# Altium footprint library SM_PTCFUSE_1812(4532).PcbLib: 1 footprints
Each footprint in its own frame and in the unit in brackets; x right, y up, seen from the top. Pads: shape width x height; smd on the part's side, far side on the other; paste and mask are expansions set on the pad; w line width, h text height; cw(c..) or ccw(c..) is an arc to the next point about the centre after c.
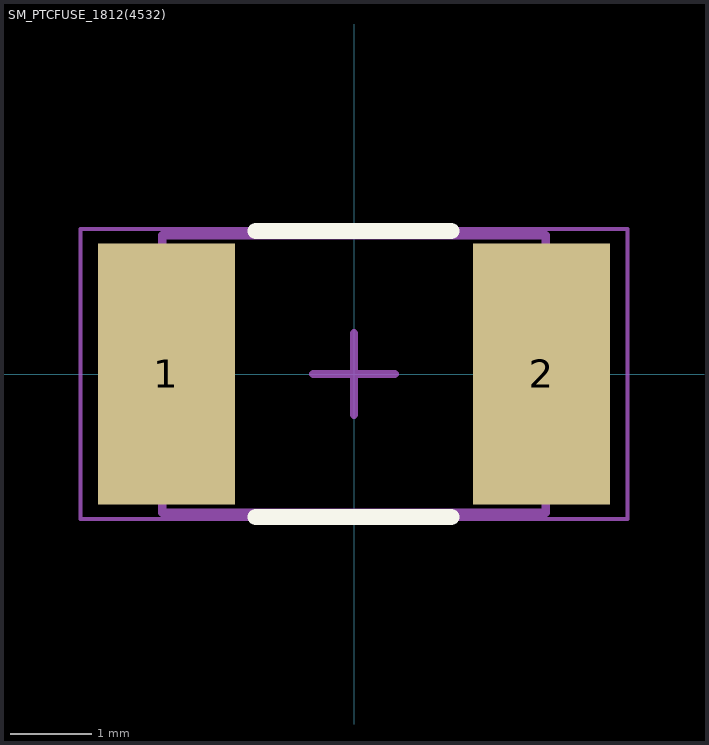
[diagram p0: the footprint, top view; thin cyan lines are the x and y axes]

## SM_PTCFUSE_1812(4532) [mm] "PTC Fuse, Body 4.5x3.2mm"
height 1.52
pads (2):
  rect 1.68x3.2 smd: 1(-2.3,0) 2(2.3,0)
Top Overlay:
  lines w0.2: -1.206,-1.753 1.194,-1.753 ; -1.206,1.753 1.194,1.753
Mechanical 13:
  lines w0.1: -2.35,-1.7 2.35,-1.7 2.35,1.7 -2.35,1.7 -2.35,-1.7
Mechanical 15:
  lines w0.05: -3.35,-1.775 3.35,-1.775 3.35,1.775 -3.35,1.775 -3.35,-1.775
  lines w0.1: -0.5,0 0.5,0 ; 0,-0.5 0,0.5
3D body "mf-msmf125.stp": height 0.7, standoff 0, extent -2.275,-1.62 2.275,1.62